# Altium footprint library Diode_bridge_DB1.PcbLib: 1 footprints
Each footprint in its own frame and in the unit in brackets; x right, y up, seen from the top. Pads: shape width x height; smd on the part's side, far side on the other; paste and mask are expansions set on the pad; w line width, h text height; cw(c..) or ccw(c..) is an arc to the next point about the centre after c.
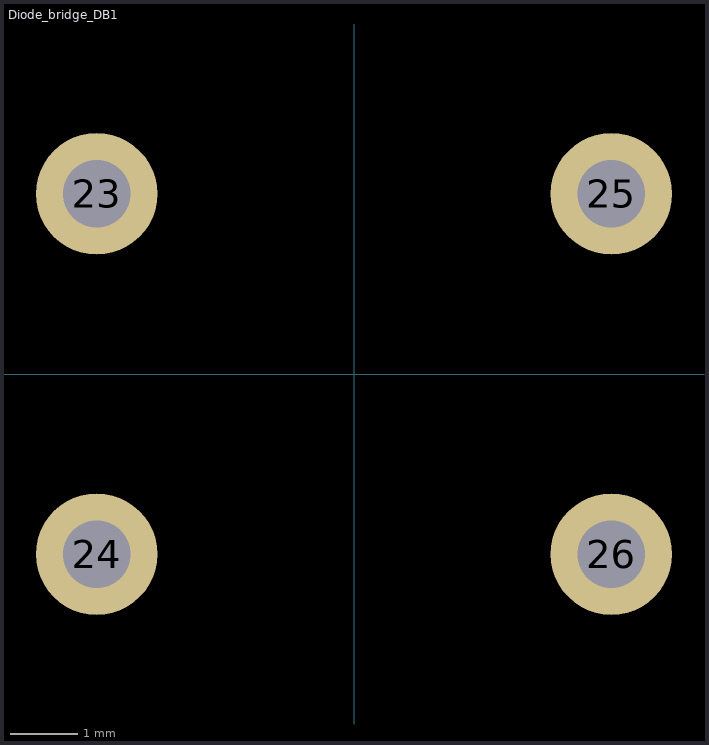
[diagram p0: the footprint, top view; thin cyan lines are the x and y axes]

## Diode_bridge_DB1 [mm]
pads (4):
  round 1.8 hole 1: 23(-3.81,2.667) 24(-3.81,-2.667) 25(3.81,2.667) 26(3.81,-2.667)
3D body "Diod_Bridge_DB1.step": height 7.6, standoff 0, extent -3.25,-4.65 3.25,4.65